# Altium schematic symbol library ES9822QPRO.SchLib: 1 symbol
Pins are listed as number, name and electrical type; pins without a type are passive.

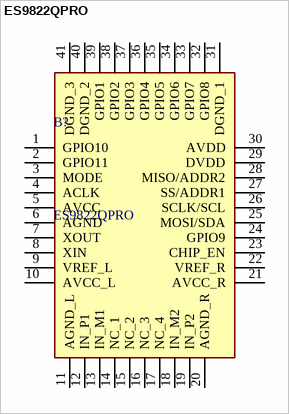
[diagram p0: symbol ES9822QPRO]

## ES9822QPRO
designator B?
Analog to Digital Converters - ADC Sabre stereo reference PRO ADC5 mm x 5mm, 40 pin QFN; Manufacturer_Name: ESS Technology; Geometry.Height: 0.8mm; Mouser Part Number: 460-ES9822QPRO; Mouser Price/Stock: https://www.mouser.co.uk/ProductDetail/ESS-Technology/ES9822QPRO?qs=A6eO%252BMLsxmRg8Ilt0hzh%2Fg%3D%3D; Manufacturer_Part_Number: ES9822QPRO; Datasheet Link: https://www.esstech.com/wp-content/uploads/2022/09/ES9822PRO_DS_v0.3.pdf
footprint QFN40P500X500X80-41N-D
pins: 1 GPIO10, 2 GPIO11, 3 MODE, 4 ACLK, 5 AVCC, 6 AGND, 7 XOUT, 8 XIN, 9 VREF_L, 10 AVCC_L, 11 AGND_L, 12 IN_P1, 13 IN_M1, 14 NC_1, 15 NC_2, 16 NC_3, 17 NC_4, 18 IN_M2, 19 IN_P2, 20 AGND_R, 21 AVCC_R, 22 VREF_R, 23 CHIP_EN, 24 GPIO9, 25 MOSI/SDA, 26 SCLK/SCL, 27 SS/ADDR1, 28 MISO/ADDR2, 29 DVDD, 30 AVDD, 31 DGND_1, 32 GPIO8, 33 GPIO7, 34 GPIO6, 35 GPIO5, 36 GPIO4, 37 GPIO3, 38 GPIO2, 39 GPIO1, 40 DGND_2, 41 DGND_3